# Altium footprint library MOSFET.PcbLib: 16 footprints
Each footprint in its own frame and in the unit in brackets; x right, y up, seen from the top. Pads: shape width x height; smd on the part's side, far side on the other; paste and mask are expansions set on the pad; w line width, h text height; cw(c..) or ccw(c..) is an arc to the next point about the centre after c.
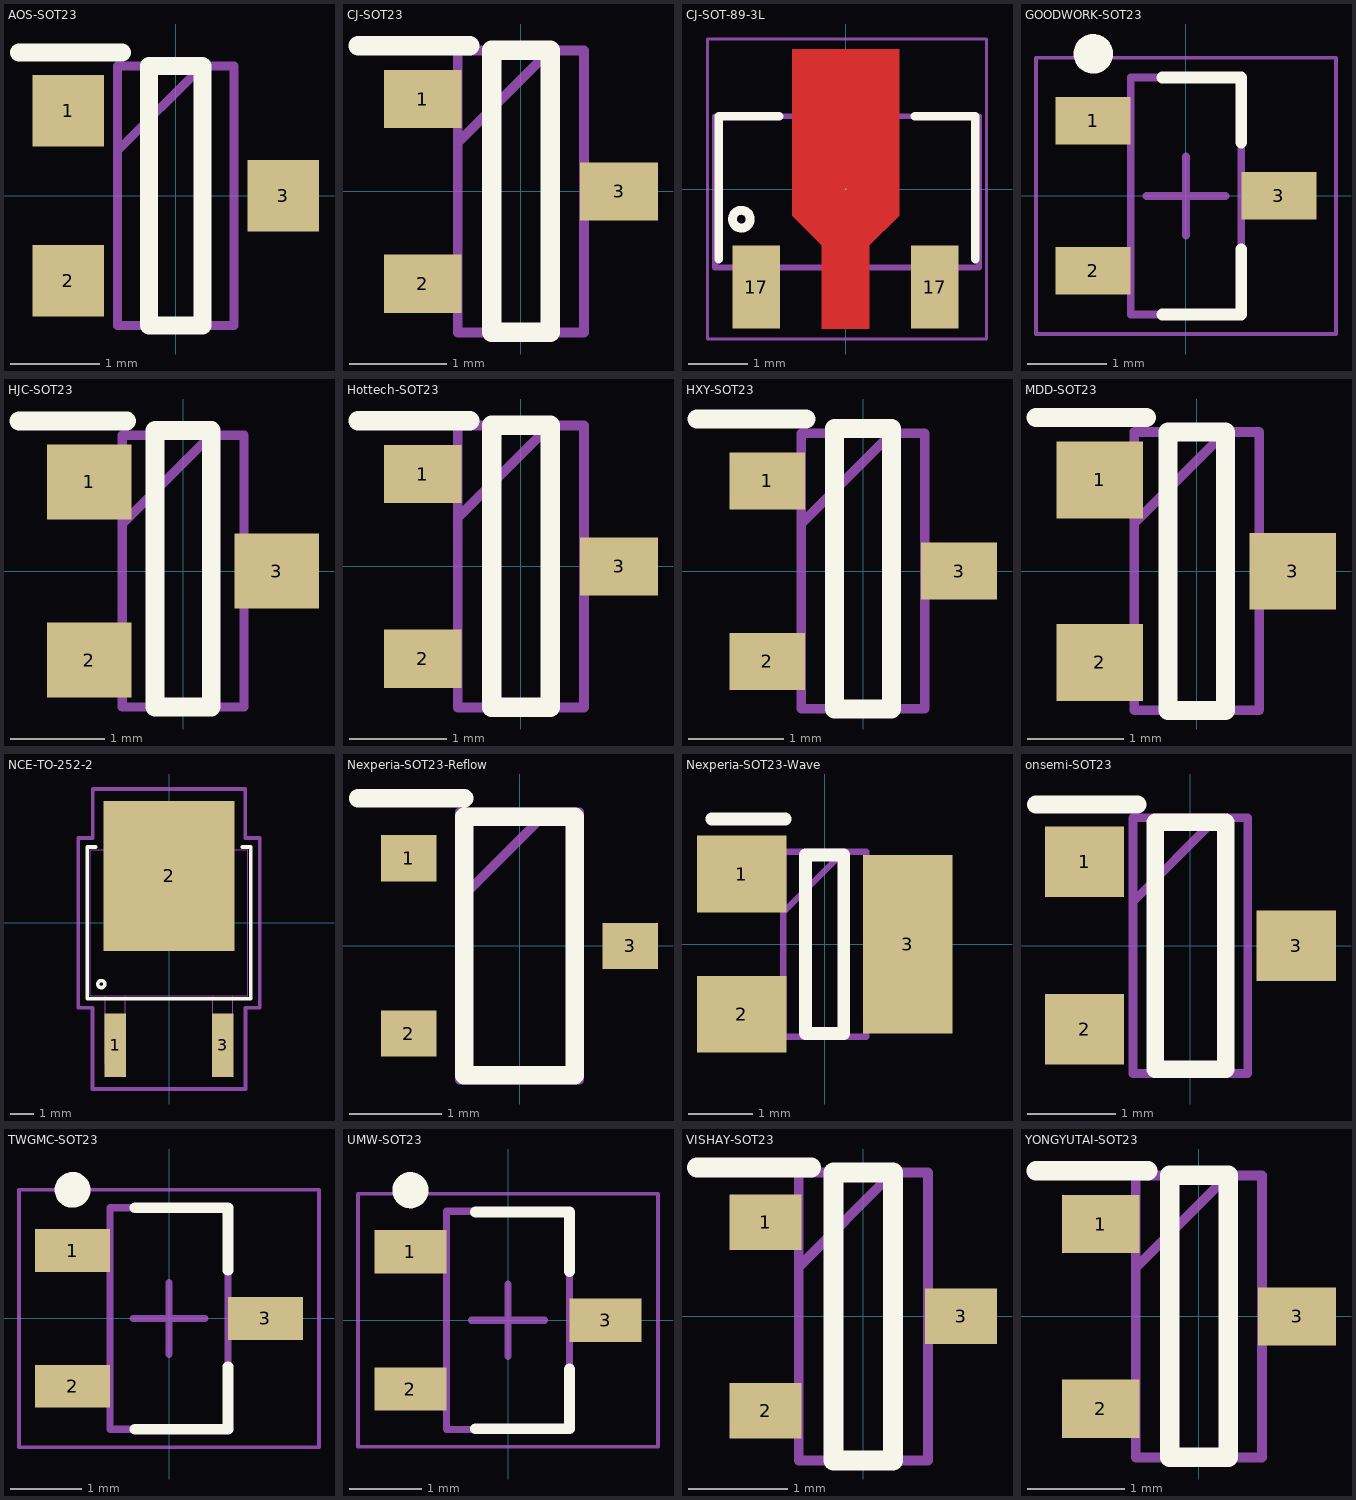
[diagram p0: the footprints below, top view; thin cyan lines are the x and y axes]

## AOS-SOT23 [mm] "AOS SOT23封装 推荐焊盘"
pads (3):
  rect 0.8x0.8 smd: 1(-1.2,0.95) 2(-1.2,-0.95) 3(1.2,0)
Top Overlay:
  lines w0.2: -1.75,1.6 -0.6,1.6 ; -0.3,-1.45 -0.3,1.45 0.3,1.45 0.3,-1.45 -0.3,-1.45
Mechanical 15:
  lines w0.1: -0.65,0.5 0.3,1.45 ; -0.65,-1.45 -0.65,1.45 0.65,1.45 0.65,-1.45 -0.65,-1.45
3D body "SOT-23.stp": height 1.2, standoff 0, extent -1.2,-1.45 1.2,1.45

## CJ-SOT23 [mm] "CJ(江苏长电/长晶) SOT23封装 推荐焊盘"
pads (3):
  rect 0.8x0.6 smd: 1(-1.01,0.95) 2(-1.01,-0.95) 3(1.01,0)
Top Overlay:
  lines w0.2: -1.675,1.5 -0.525,1.5 ; -0.3,-1.45 0.3,-1.45 0.3,1.45 -0.3,1.45 -0.3,-1.45
Mechanical 15:
  lines w0.1: -0.65,0.5 0.3,1.45 ; -0.65,-1.45 0.65,-1.45 0.65,1.45 -0.65,1.45 -0.65,-1.45
3D body "SOT-23.stp": height 1.2, standoff 0, extent -1.2,-1.45 1.2,1.45

## CJ-SOT-89-3L [mm]
pads (3):
  rect 0.8x1.4 smd: 17(-1.499,-1.651) 17(1.501,-1.651)
  round 0.025 smd: 17(0.001,-0.001)
Top Layer:
  region: -0.899,-0.451 -0.399,-0.951 -0.399,-2.351 0.401,-2.351 0.401,-0.951 0.901,-0.451 0.901,2.349 -0.899,2.349
Top Overlay:
  circle w0.15: c-1.753,-0.508 r0.15
  lines w0.15: -2.134,-1.175 -2.134,1.225 -1.118,1.225 ; 1.168,1.225 2.184,1.225 2.184,-1.175
Mechanical 13:
  lines w0.1: -2.2,-1.322 -2.2,1.225 2.25,1.225 2.25,-1.322 -2.2,-1.322
Mechanical 15:
  lines w0.05: -2.325,-2.525 2.375,-2.525 2.375,2.525 -2.325,2.525 -2.325,-2.525
3D body "SOT89-3.STEP": height 1.54, standoff 0, extent -2.225,-2.25 2.275,2

## GOODWORK-SOT23 [mm] "GOODWORK(固得沃克) SOT23 根据尺寸生成"
height 1.1
pads (3):
  rect 0.95x0.6 smd: 1(-1.175,0.95) 2(-1.175,-0.95) 3(1.175,0)
Top Overlay:
  circle w0.25: c-1.175,1.8 r0.125
  lines w0.15: -0.3,-1.5 0.7,-1.5 0.7,-0.675 ; -0.3,1.5 0.7,1.5 0.7,0.675
Mechanical 13:
  lines w0.1: -0.7,-1.5 0.7,-1.5 0.7,1.5 -0.7,1.5 -0.7,-1.5
Mechanical 15:
  lines w0.05: -1.9,-1.75 1.9,-1.75 1.9,1.75 -1.9,1.75 -1.9,-1.75
  lines w0.1: -0.5,0 0.5,0 ; 0,-0.5 0,0.5
3D body "GOODWORK-SOT23.step": height 1.1, standoff 0.01, extent -1.293,-1.5 1.293,1.5

## HJC-SOT23 [mm] "宏嘉诚 SOT23封装 推荐焊盘"
pads (3):
  rect 0.9x0.8 smd: 1(-1,0.95) 2(-1,-0.95) 3(1,0)
Top Overlay:
  lines w0.2: -1.75,1.6 -0.6,1.6 ; -0.3,-1.45 -0.3,1.5 0.3,1.5 0.3,-1.45 -0.3,-1.45
Mechanical 15:
  lines w0.1: -0.65,0.5 0.3,1.45 ; -0.65,-1.45 -0.65,1.45 0.65,1.45 0.65,-1.45 -0.65,-1.45
3D body "SOT-23.stp": height 1.2, standoff 0, extent -1.2,-1.45 1.2,1.45

## Hottech-SOT23 [mm] "Hottech SOT23封装 推荐焊盘"
pads (3):
  rect 0.8x0.6 smd: 1(-1.01,0.95) 2(-1.01,-0.95) 3(1.01,0)
Top Overlay:
  lines w0.2: -1.675,1.5 -0.525,1.5 ; -0.3,-1.45 -0.3,1.45 0.3,1.45 0.3,-1.45 -0.3,-1.45
Mechanical 15:
  lines w0.1: -0.65,0.5 0.3,1.45 ; -0.65,-1.45 -0.65,1.45 0.65,1.45 0.65,-1.45 -0.65,-1.45
3D body "SOT-23.stp": height 1.2, standoff 0, extent -1.2,-1.45 1.2,1.45

## HXY-SOT23 [mm] "HXY MOSFET SOT23封装 推荐焊盘"
pads (3):
  rect 0.8x0.6 smd: 1(-1.01,0.95) 2(-1.01,-0.95) 3(1.01,0)
Top Overlay:
  lines w0.2: -1.75,1.6 -0.6,1.6 ; -0.3,-1.45 -0.3,1.5 0.3,1.5 0.3,-1.45 -0.3,-1.45
Mechanical 15:
  lines w0.1: -0.65,0.5 0.3,1.45 ; -0.65,-1.45 -0.65,1.45 0.65,1.45 0.65,-1.45 -0.65,-1.45
3D body "SOT-23.stp": height 1.2, standoff 0, extent -1.2,-1.45 1.2,1.45

## MDD-SOT23 [mm] "MDD(辰达半导体) SOT23封装 推荐焊盘"
pads (3):
  rect 0.9x0.8 smd: 1(-1.01,0.95) 2(-1.01,-0.95) 3(1,0)
Top Overlay:
  lines w0.2: -1.675,1.6 -0.525,1.6 ; -0.3,-1.45 -0.3,1.45 0.3,1.45 0.3,-1.45 -0.3,-1.45
Mechanical 15:
  lines w0.1: -0.65,0.5 0.3,1.45 ; -0.65,-1.45 -0.65,1.45 0.65,1.45 0.65,-1.45 -0.65,-1.45
3D body "SOT-23.stp": height 1.2, standoff 0, extent -1.2,-1.45 1.2,1.45

## NCE-TO-252-2 [mil] "NCE(无锡新洁能) TO-252-2(DPAK) 来自ultralibrarian"
pads (3):
  rect 35.97x106.37 smd: 1(-90,-204.74) 3(90,-204.74)
  rect 219x251 smd: 2(0,78.5)
Top Overlay:
  circle w5.91: c-113.19,-102.36 r5.91
  lines w6: -122.6,127 -137,127 -137,-127 137,-127 137,127 122.6,127
Mechanical 13:
  lines w1: -132,-122 132,-122 132,122 -132,122 -132,-122 ; -107,-236.27 -107,-122 -73,-122 -73,-236.27 -107,-236.27 ; 73,-236.27 73,-122 107,-122 107,-236.27 73,-236.27
Mechanical 15:
  lines w6: -152,-142 -152,142 -127.5,142 -127.5,224 127.5,224 127.5,142 152,142 152,-142 127.98,-142 127.98,-277.92 -127.98,-277.92 -127.98,-142 -152,-142
3D body "TO-252-2.stp": height 90.94, standoff 0.39, extent -127.95,-206.69 127.95,167.32

## Nexperia-SOT23-Reflow [mm] "Nexperia SOT23封装 回流焊 推荐焊盘"
pads (3):
  rect 0.6x0.5 smd mask+0.1: 1(-1.2,0.95) 2(-1.2,-0.95) 3(1.2,0)
Top Overlay:
  lines w0.2: -1.75,1.6 -0.6,1.6 ; -0.6,-1.4 -0.6,1.4 0.6,1.4 0.6,-1.4 -0.6,-1.4
Mechanical 15:
  lines w0.1: -0.65,0.5 0.3,1.45 ; -0.65,-1.45 -0.65,1.45 0.65,1.45 0.65,-1.45 -0.65,-1.45
3D body "SOT-23.stp": height 1.2, standoff 0, extent -1.2,-1.45 1.2,1.45

## Nexperia-SOT23-Wave [mm] "Nexperia SOT23封装 波峰焊 推荐焊盘"
pads (3):
  rect 1.4x1.2 smd: 1(-1.3,1.1) 2(-1.3,-1.1)
  rect 1.4x2.8 smd: 3(1.3,0)
Top Overlay:
  lines w0.2: -1.768,1.964 -0.618,1.964 ; -0.3,-1.4 0.3,-1.4 0.3,1.4 -0.3,1.4 -0.3,-1.4
Mechanical 15:
  lines w0.1: -0.65,0.5 0.3,1.45 ; -0.65,-1.45 0.65,-1.45 0.65,1.45 -0.65,1.45 -0.65,-1.45
3D body "SOT-23.stp": height 1.2, standoff 0, extent -1.2,-1.45 1.2,1.45

## onsemi-SOT23 [mm] "onsemi SOT23封装 推荐焊盘"
pads (3):
  rect 0.9x0.8 smd: 1(-1.2,0.95) 2(-1.2,-0.95) 3(1.2,0)
Top Overlay:
  lines w0.2: -1.75,1.6 -0.6,1.6 ; -0.4,-1.4 0.4,-1.4 0.4,1.4 -0.4,1.4 -0.4,-1.4
Mechanical 15:
  lines w0.1: -0.65,0.5 0.3,1.45 ; -0.65,-1.45 0.65,-1.45 0.65,1.45 -0.65,1.45 -0.65,-1.45
3D body "SOT-23.stp": height 1.2, standoff 0, extent -1.2,-1.45 1.2,1.45

## TWGMC-SOT23 [mm] "TWGMC(台湾迪嘉) SOT23 格局尺寸生成"
height 1.4
pads (3):
  rect 1.05x0.6 smd: 1(-1.35,0.95) 2(-1.35,-0.95) 3(1.35,0)
Top Overlay:
  circle w0.25: c-1.35,1.8 r0.125
  lines w0.15: -0.475,-1.55 0.825,-1.55 0.825,-0.675 ; -0.475,1.55 0.825,1.55 0.825,0.675
Mechanical 13:
  lines w0.1: -0.825,-1.55 -0.825,1.55 0.825,1.55 0.825,-1.55 -0.825,-1.55
Mechanical 15:
  lines w0.05: -2.1,-1.8 -2.1,1.8 2.1,1.8 2.1,-1.8 -2.1,-1.8
  lines w0.1: -0.5,0 0.5,0 ; 0,-0.5 0,0.5
3D body "TWGMC-SOT23.step": height 1.4, standoff 0, extent -1.5,-1.55 1.5,1.55

## UMW-SOT23 [mm] "UMW(友台半导体) SOT23 根据尺寸生成"
height 1.15
pads (3):
  rect 1x0.6 smd: 1(-1.35,0.95) 2(-1.35,-0.95) 3(1.35,0)
Top Overlay:
  circle w0.25: c-1.35,1.8 r0.125
  lines w0.15: -0.45,-1.5 0.85,-1.5 0.85,-0.675 ; -0.45,1.5 0.85,1.5 0.85,0.675
Mechanical 13:
  lines w0.1: -0.85,-1.51 0.85,-1.51 0.85,1.51 -0.85,1.51 -0.85,-1.51
Mechanical 15:
  lines w0.05: -2.075,-1.75 2.075,-1.75 2.075,1.75 -2.075,1.75 -2.075,-1.75
  lines w0.1: -0.5,0 0.5,0 ; 0,-0.5 0,0.5
3D body "UMW-SOT23.step": height 1.15, standoff 0, extent -1.45,-1.51 1.45,1.51

## VISHAY-SOT23 [mm] "VISHAY(威世) SOT23封装 推荐焊盘"
pads (3):
  rect 0.724x0.559 smd: 1(-0.984,0.95) 2(-0.984,-0.95) 3(0.984,0)
Top Overlay:
  lines w0.2: -1.675,1.5 -0.525,1.5 ; -0.3,-1.45 -0.3,1.45 0.3,1.45 0.3,-1.45 -0.3,-1.45
Mechanical 15:
  lines w0.1: -0.65,0.5 0.3,1.45 ; -0.65,-1.45 -0.65,1.45 0.65,1.45 0.65,-1.45 -0.65,-1.45
3D body "SOT-23.stp": height 1.2, standoff 0, extent -1.2,-1.45 1.2,1.45

## YONGYUTAI-SOT23 [mm] "YONGYUTAI(永裕泰) SOT23封装 推荐焊盘"
pads (3):
  rect 0.8x0.6 smd: 1(-1.01,0.95) 2(-1.01,-0.95) 3(1.01,0)
Top Overlay:
  lines w0.2: -1.675,1.5 -0.525,1.5 ; -0.3,-1.45 -0.3,1.45 0.3,1.45 0.3,-1.45 -0.3,-1.45
Mechanical 15:
  lines w0.1: -0.65,0.5 0.3,1.45 ; -0.65,-1.45 -0.65,1.45 0.65,1.45 0.65,-1.45 -0.65,-1.45
3D body "SOT-23.stp": height 1.2, standoff 0, extent -1.2,-1.45 1.2,1.45